# Altium footprint library WIGGLER.PcbLib: 11 footprints
Each footprint in its own frame and in the unit in brackets; x right, y up, seen from the top. Pads: shape width x height; smd on the part's side, far side on the other; paste and mask are expansions set on the pad; w line width, h text height; cw(c..) or ccw(c..) is an arc to the next point about the centre after c.
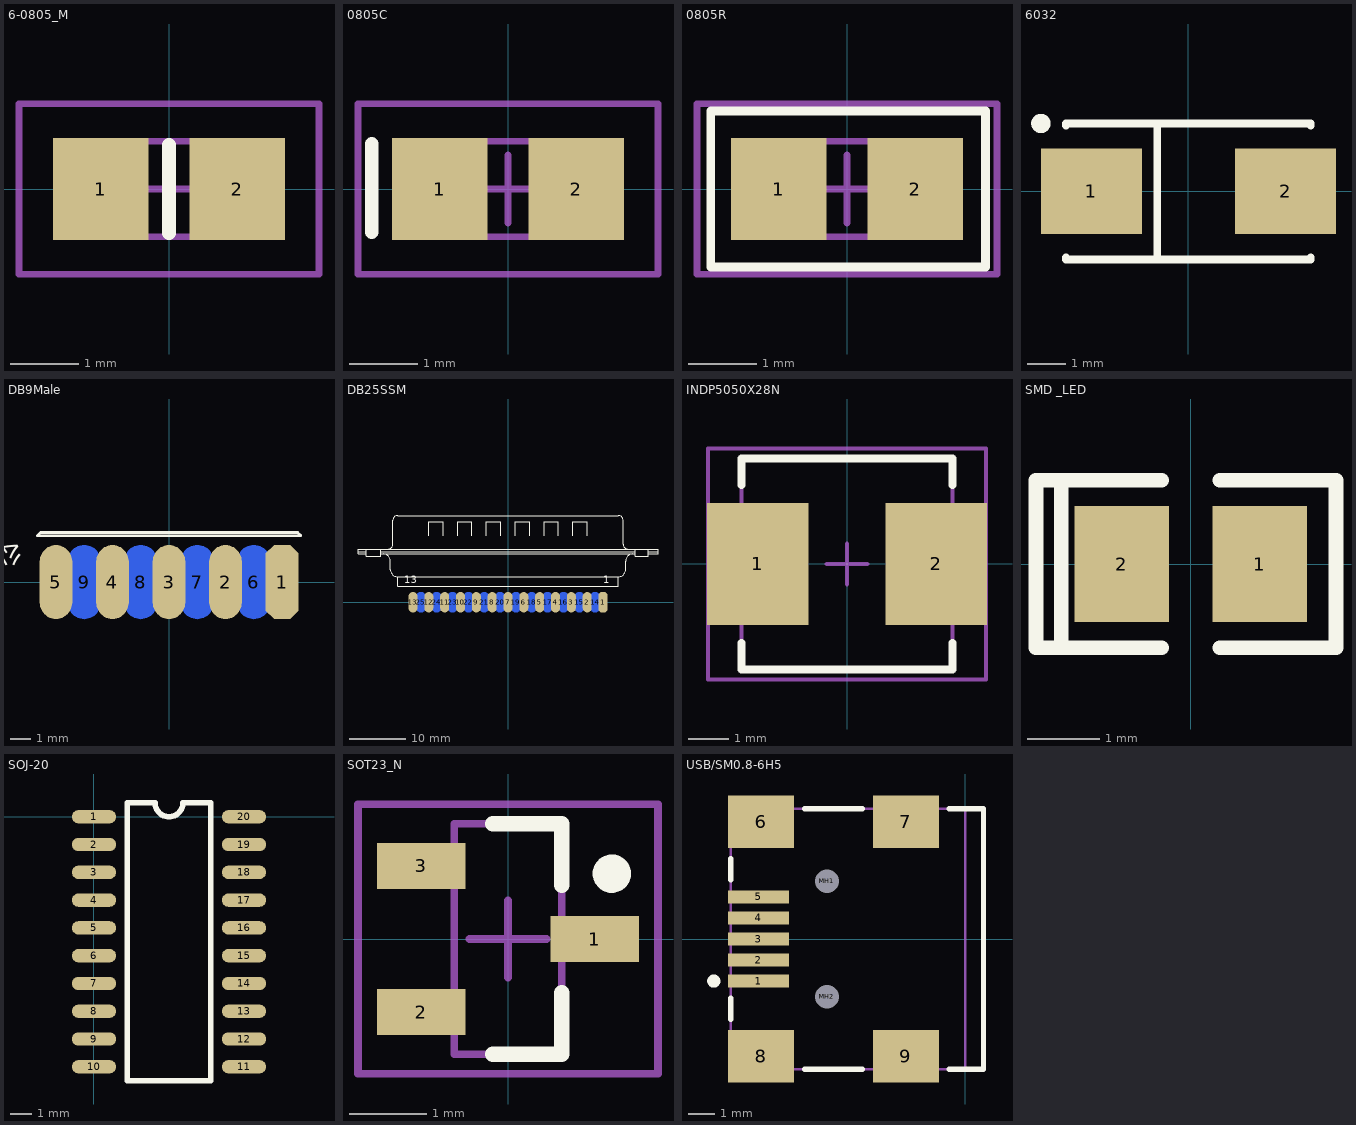
[diagram p0: the footprints below, top view; thin cyan lines are the x and y axes]

## 6-0805_M [mm] "Chip Resistor, Body 2.0x1.2mm, IPC Low Densi"
height 0.7
pads (2):
  rect 1.4x1.5 smd: 1(-1,0) 2(1,0)
Top Overlay:
  lines w0.2: 0,-0.65 0,0.65
Mechanical 13:
  lines w0.1: -1.075,-0.7 1.075,-0.7 1.075,0.7 -1.075,0.7 -1.075,-0.7
Mechanical 15:
  lines w0.1: -0.5,0 0.5,0 ; 0,-0.5 0,0.5 ; -2.2,-1.25 2.2,-1.25 2.2,1.25 -2.2,1.25 -2.2,-1.25
3D body: height 0.7, standoff 0, extent -1.075,-0.7 1.075,0.7

## 0805C [mm] "Chip Resistor, Body 2.0x1.2mm, IPC Low Density"
height 0.7
pads (2):
  rect 1.4x1.5 smd: 1(-1,0) 2(1,0)
Top Overlay:
  lines w0.2: -2,-0.635 -2,0.665
Mechanical 13:
  lines w0.1: -1.075,-0.7 -1.075,0.7 1.075,0.7 1.075,-0.7 -1.075,-0.7
Mechanical 15:
  lines w0.1: -0.5,0 0.5,0 ; 0,-0.5 0,0.5 ; -2.2,-1.25 -2.2,1.25 2.2,1.25 2.2,-1.25 -2.2,-1.25
3D body: height 0.7, standoff 0, extent -1.075,-0.7 1.075,0.7

## 0805R [mm] "Chip Resistor, Body 2.0x1.2mm, IPC Low Densi"
height 0.7
pads (2):
  rect 1.4x1.5 smd: 1(-1,0) 2(1,0)
Top Overlay:
  lines w0.127: -2,-1.143 2.032,-1.143 2.032,1.143 -2,1.143 -2,-1.143
Mechanical 13:
  lines w0.1: -1.075,-0.7 -1.075,0.7 1.075,0.7 1.075,-0.7 -1.075,-0.7
Mechanical 15:
  lines w0.1: -0.5,0 0.5,0 ; 0,-0.5 0,0.5 ; -2.2,-1.25 -2.2,1.25 2.2,1.25 2.2,-1.25 -2.2,-1.25
3D body: height 0.7, standoff 0, extent -1.075,-0.7 1.075,0.7

## 6032 [mm] "Capacitor, SM Tantalum; Body 6.0 x 3.2 mm (LxW typ)"
height 3.4
pads (2):
  rect 2.6x2.2 smd: 1(-2.5,0) 2(2.5,0)
Top Overlay:
  circle w0.25: c-3.8,1.75 r0.125
  lines w0.2: -3.15,-1.7 -3.15,-1.75 3.15,-1.75 3.15,-1.7 ; -3.15,1.7 -3.15,1.75 3.15,1.75 3.15,1.7 ; -0.8,-1.75 -0.8,1.75
3D body: height 2.22, standoff -0.47, extent -3.13,-1.556 3.055,1.649

## DB9Male [mil]
height 62.99
pads (9):
  oct 62.5x141.67 smd: 1(216.67,0)
  oval 62.5x141.67 smd: 2(108.33,0) 3(0,0) 4(-108.33,0) 5(-216.67,0)
  oval 62.5x141.67 smd far side: 6(162.5,0) 7(54.17,0) 8(-54.17,0) 9(-162.5,0)
Top Overlay:
  lines w5: -252.33,89 252.67,89 246.67,95 -246.33,95 -252.33,89
  text "公" at -280,80 h60

## DB25SSM [mil]
height 62.99
pads (25):
  oct 62.5x141.67 smd: 1(660,0)
  oval 62.5x141.67 smd: 2(550,0) 3(440,0) 4(330,0) 5(220,0) 6(110,0) 7(0,0) 8(-110,0) 9(-220,0) 10(-330,0) 11(-440,0) 12(-550,0) 13(-660,0)
  oval 62.5x141.67 smd far side: 14(605,0) 15(495,0) 16(385,0) 17(275,0) 18(165,0) 19(55,0) 20(-55,0) 21(-165,0) 22(-275,0) 23(-385,0) 24(-495,0) 25(-605,0)
Top Overlay:
  lines w8: -1041.67,351.67 -983.33,351.67 ; -983.33,335 -1041.67,335 -1041.67,368.33 1041.67,368.33 1041.67,335 975,335 ; -983.33,368.33 -983.33,318.33 -883.33,318.33 -883.33,368.33 ; -883.33,335 883.33,335 ; -883.33,351.67 883.33,351.67 ; -866.67,335 cw(c-866.67,285) -816.67,285 -816.67,226.67 ccw(c-766.67,226.67) -766.67,176.67 ; -833.33,368.33 ccw(c-833.33,401.67) -800,401.67 -800,568.33 cw(c-766.67,568.33) -766.67,601.67 766.67,601.67 cw(c766.67,568.33) 800,568.33 800,401.67 ccw(c833.33,401.67) 833.33,368.33 ; -550,460 -550,560 -450,560 -450,460 ; -350,460 -350,560 -250,560 -250,460 ; -150,460 -150,560 -50,560 -50,460 ; 50,460 50,560 150,560 150,460 ; 250,460 250,560 350,560 350,460 ; 450,460 450,560 550,560 550,460 ; 866.67,335 ccw(c866.67,285) 816.67,285 816.67,226.67 cw(c766.67,226.67) 766.67,176.67 ; 883.33,368.33 883.33,318.33 975,318.33 975,368.33 ; 975,351.67 1041.67,351.67 ; -766.67,176.67 -766.67,110 766.67,110 766.67,176.67 ; -766.67,176.67 766.67,176.67
  text "13" at -720,130 h50
  text "1" at 660,130 h50

## INDP5050X28N [mm]
height 1.6
pads (2):
  rect 2.5x3 smd: 1(-2.2,0) 2(2.2,0)
Top Overlay:
  lines w0.2: -2.6,-1.95 -2.6,-2.6 2.6,-2.6 2.6,-1.95 ; -2.6,1.95 -2.6,2.6 2.6,2.6 2.6,1.95
Mechanical 13:
  lines w0.1: -2.6,-2.6 -2.6,2.6 2.6,2.6 2.6,-2.6 -2.6,-2.6
Mechanical 15:
  lines w0.1: -0.5,0 0.5,0 ; 0,-0.5 0,0.5 ; -3.425,-2.85 -3.425,2.85 3.425,2.85 3.425,-2.85 -3.425,-2.85
3D body: height 2, standoff 0, extent -1.565,-1.533 1.512,1.544

## SMD _LED [mm]
height 1.6
pads (2):
  rect 1.3x1.6 smd: 1(0.95,0) 2(-0.95,0)
Top Overlay:
  lines w0.2: -1.78,-1.15 -1.78,1.15 ; -0.4,-1.15 -2.13,-1.15 -2.13,1.15 -0.4,1.15 ; 0.4,-1.15 2,-1.15 2,1.15 0.4,1.15

## SOJ-20 [mil]
height 62.99
pads (20):
  oval 80x24 smd: 1(0.41,-0.01) 2(0.41,-50.01) 3(0.41,-100.01) 4(0.41,-150.01) 5(0.41,-200.01) 6(0.41,-250.01) 7(0.41,-300.01) 8(0.41,-350.01) 9(0.41,-400.01) 10(0.41,-450.01) 11(270.41,-450.01) 12(270.41,-400.01) 13(270.41,-350.01) 14(270.41,-300.01) 15(270.41,-250.01) 16(270.41,-200.01) 17(270.41,-150.01) 18(270.41,-100.01) 19(270.41,-50.01) 20(270.41,-0.01)
Top Overlay:
  lines w10: 60.41,-475.01 60.41,24.99 110.41,24.99 ccw(c135.41,24.99) 160.41,24.99 210.41,24.99 210.41,-475.01 60.41,-475.01

## SOT23_N [mm] "SOT23, 3-Leads, Body 2.9x1.3mm, Pitch 0.95mm, Lead Span 2.3mm - Reverse Pinning, IPC Medium Density"
height 1.1
pads (3):
  rect 1.15x0.6 smd: 1(1.125,0) 2(-1.125,-0.95) 3(-1.125,0.95)
Top Overlay:
  circle w0.25: c1.35,0.85 r0.125
  lines w0.2: -0.2,-1.5 0.7,-1.5 0.7,-0.7 ; -0.2,1.5 0.7,1.5 0.7,0.7
Mechanical 13:
  lines w0.1: -0.7,-1.5 0.7,-1.5 0.7,1.5 -0.7,1.5 -0.7,-1.5
Mechanical 15:
  lines w0.1: -0.5,0 0.5,0 ; 0,-0.5 0,0.5 ; -1.95,-1.75 1.95,-1.75 1.95,1.75 -1.95,1.75 -1.95,-1.75
3D body: height 1.1, standoff 0, extent -0.7,-1.5 0.7,1.5

## USB/SM0.8-6H5 [mm] "Connector; USB2.0, Type B, SM; 5 Position; Right Angle"
height 3.9
pads (11):
  rect 2.3x0.5 smd: 1(-7.85,-1.6) 2(-7.85,-0.8) 3(-7.85,0) 4(-7.85,0.8) 5(-7.85,1.6)
  rect 2.5x2 smd: 6(-7.75,4.45) 7(-2.25,4.45) 8(-7.75,-4.45) 9(-2.25,-4.45)
  round 0.6 hole 0.9 unplated: MH1(-5.25,2.2) MH2(-5.25,-2.2)
Top Overlay:
  circle w0.25: c-9.55,-1.6 r0.125
  lines w0.2: -8.9,-3.05 -8.9,-2.25 ; -8.9,2.25 -8.9,3.05 ; -6.1,-4.95 -3.9,-4.95 ; -6.1,4.95 -3.9,4.95 ; -0.6,-4.95 0.7,-4.95 0.7,4.95 -0.6,4.95
Mechanical 1:
  lines w0.1: 0,-4.95 0,4.95
  text "PCB Edge" at 0.432,-4.036 h0.25
Mechanical 13:
  lines w0.1: -8.9,-4.95 0.7,-4.95 0.7,4.95 -8.9,4.95 -8.9,-4.95
3D body: height 3.9, standoff 0, extent -8.9,-4.95 0.7,4.95